# Altium schematic symbol library ADA4096.SchLib: 1 symbol
Pins are listed as number, name and electrical type; pins without a type are passive.

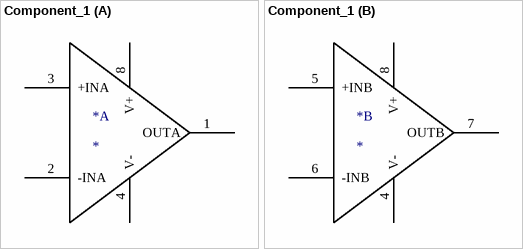
[diagram p0: symbol Component_1]

## Component_1
designator *
footprint ADA4096
footprint ADA4096
part A pins: 1 OUTA, 2 -INA, 3 +INA, 4 V-, 8 V+
part B pins: 4 V-, 5 +INB, 6 -INB, 7 OUTB, 8 V+